# EAGLE library part TPS876 (library sjg-power)
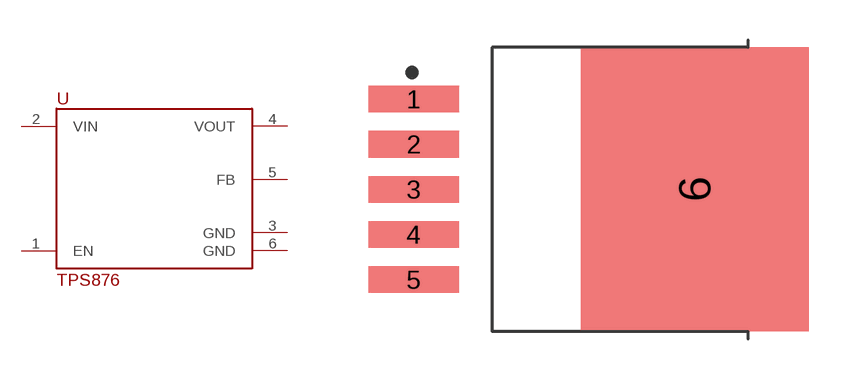
[diagram p5: symbol with the pads of TO170P1524X483-6; footprint TO170P1524X483-6]

Designator prefix -

## TPS876  [TO170P1524X483-6]
1  EN
2  VIN
3  GND
4  VOUT
5  FB
6  GND

## Footprint TO170P1524X483-6 (pad centres in mm)
6-TO, DPAK, 1.70 mm pitch, 15.24 mm span, 10.18 X 8.93 X 4.83 mm body 6-pin TO, DPAK package with 1.70 mm pitch, 15.24 mm span with body size 10.18 X 8.93 X 4.83 mm
smd 3.4 x 1: 1 -6.5,3.4; 2 -6.5,1.7; 3 -6.5,0; 4 -6.5,-1.7; 5 -6.5,-3.4
smd 8.6 x 10.7: 6 4.1,0